# Altium schematic symbol library Sch_DC_DC_Convertors.SchLib: 1 symbol
Pins are listed as number, name and electrical type; pins without a type are passive.

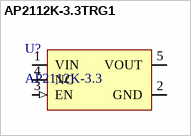
[diagram p0: symbol AP2112K-3.3TRG1]

## AP2112K-3.3TRG1
designator U?, comment AP2112K-3.3
65dB@(1kHz) 600mA Fixed 3.3V Positive 6V SOT-25-5 Voltage Regulators - Linear, Low Drop Out (LDO) Regulators ROHS; Manufacturer: Diodes; Manufacturer Part Number: AP2112K-3.3TRG1; Package Body Material: Plastic; Dropout Voltage1-Max: 400mV; Dropout Voltage1-Nom: 250mV; Input Voltage Absolute-Max: 6.5V; Min Input Voltage: 2.5V; Channels: 1; Output Voltage1-Max: 3.3495V; Output Voltage1-Min: 3.2505V; Package Equivalence Code: TSOP5/6,.11,37; Regulator Type: FIXED POSITIVE SINGLE OUTPUT LDO REGULATOR; Voltage Tolerance-Max: 1.5%; Qualification Status: Not Qualified; Supplier: Digikey; Supplier Part Number: AP2112K-3.3TRG1DICT-ND; RoHS: Yes; Category: Voltage Regulators - Linear; Stock: 88549; Pricing: 1=0.22, 10=0.153, 25=0.1348, 100=0.1151, 250=0.10576, 500=0.1001, 1000=0.09545 (USD); Case/Package: LSSOP; Pins: 5; Package Shape: Rectangular; Terminal Finish: Tin; Min Operating Temperature: -40°C; Max Operating Temperature: 85°C; JESD-609 Code: e3; Adjustability: FIXED; Max Supply Voltage: 6V; JESD-30 Code: R-PDSO-G5; Moisture Sensitivity Level: 3; Number of Outputs: 1; Operating Temperature, TJ-Max: 85°C; Operating Temperature, TJ-Min: -40°C; Output Current1-Max: 600mA; Output Voltage1-Nom: 3.3V; Packaging: Tape and Reel; Surface Mount: Yes; Technology: CMOS; Terminal Form: Gull Wing; Terminal Position: DUAL; Length: 2.92mm; Width: 1.6mm; Height - Seated (Max): 1.45mm; Terminal Pitch: 0.95mm; Reach SVHC Compliant: Yes; RoHS Compliant: Yes; ComponentLink1URL: https://datasheet.ciiva.com:443/pdfs/VipMasterIC/IC/DIOD/DIOD-S-A0003551552/DIOD-S-A0003551552-1.pdf?src-supplier=IHS+Markit; ComponentLink1Description: https://datasheet.ciiva.com:443/pdfs/VipMasterIC/IC/DIOD/DIOD-S-A0003551552/DIOD-S-A0003551552-1.pdf?src-supplier=IHS+Markit; ComponentLink2URL: https://datasheet.ciiva.com/30016/ap2112-30016792.pdf?src-supplier=Avnet; ComponentLink2Description: https://datasheet.ciiva.com/30016/ap2112-30016792.pdf?src-supplier=Avnet; LCSC Part #: C51118
footprint SOT_RG1_DIO
pins: 1 VIN (power), 2 GND (power), 3 EN (in), 4 NC, 5 VOUT (power)